# Altium schematic symbol library Schlib1.SchLib: 4 symbols
Pins are listed as number, name and electrical type; pins without a type are passive.

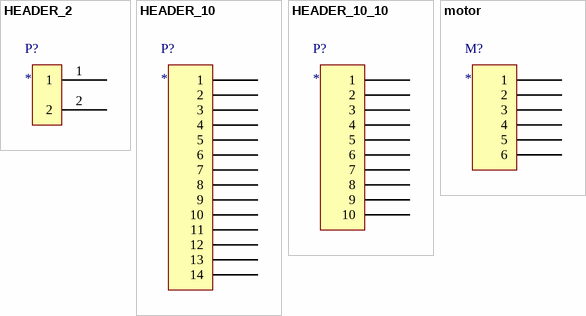
[diagram p0: symbols HEADER_2 to motor]

## HEADER_2
designator P?
pins: 1, 2

## HEADER_10
designator P?
pins: 1, 2, 3, 4, 5, 6, 7, 8, 9, 10, 11, 12, 13, 14

## HEADER_10_10
designator P?
pins: 1, 2, 3, 4, 5, 6, 7, 8, 9, 10

## motor
designator M?
pins: 1, 2, 3, 4, 5, 6